# Altium schematic symbol library 352212RJT.SchLib: 1 symbol
Pins are listed as number, name and electrical type; pins without a type are passive.

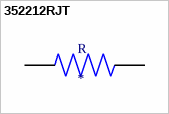
[diagram p0: symbol 352212RJT]

## 352212RJT
designator R
Thick Film Resistors - SMD 3522 12R 5% 3W; MP: 352212RJT; MF: TE Connectivity; Resistance: 12; Package: 2512; Availability: Unavailable; SnapEDA_Link: https://www.snapeda.com/parts/352212RJT/TE%20Connectivity%20Passive%20Product/view-part/1008159/?ref=snap; Value: *; Price: None; Mouser-Purchase-URL: https://snapeda.com/shop?store=Mouser&id=1008159; Power_Rating: 3 W; Tolerance: 5%
footprint RESC6332X120N
pins: 1, 2